# Altium integrated library FSM4JSMA.IntLib: 1 symbol
Pins are listed as number, name and electrical type; pins without a type are passive.

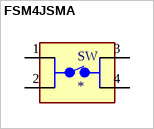
[diagram p0: symbol FSM4JSMA]

## FSM4JSMA
designator SW
Tactile Switch SPST-NO Top Actuated Surface Mount; Contact_Current_Rating: 50 mA; MP: FSM4JSMA; Configuration_Pole-Throw: Single Pole - Single Throw; MF: TE Connectivity; SnapEDA_Link: https://www.snapeda.com/parts/FSM4JSMA/TE%20Connectivity%20ALCOSWITCH%20Switches/view-part/543632/?ref=snap; Availability: Unavailable; TE_purchase_URL: https://www.te.com/usa-en/product-4-1437565-1.html?te_bu=Cor&te_type=disp&te_campaign=seda_glo_cor-seda-global-disp-prtnr-fy19-seda-model-bom-cta_sma-317_1&elqCampaignId=32493; EU_RoHS_Compliance: Compliant; Price: None; Value: *; Package: None
footprint TE_FSM4JSMA
pins: 1, 2, 3, 4